# EAGLE library part LT3652EMSEPBF (library PowerIC)
Power Tracking 2A Battery Charger for Solar Power
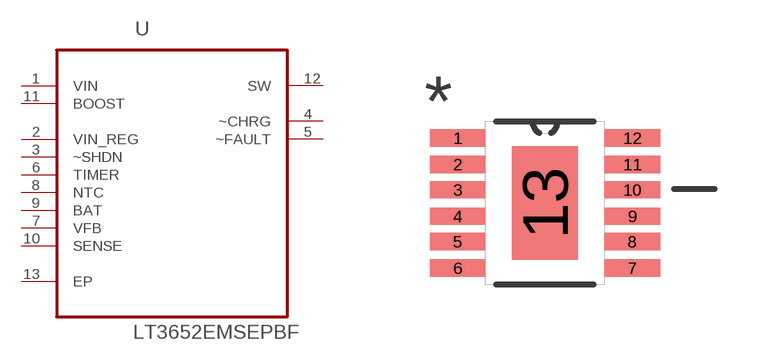
[diagram p1: symbol with the pads of SOP65P490X110-13N; footprint SOP65P490X110-13N]

Designator prefix U

## LT3652EMSEPBF (MPN: LT3652EMSE#PBF; OC_FARNELL: 1839126; OC_NEWARK: 64R8539; PACKAGE: MSOP-12; SUPPLIER: Linear Technology)  [SOP65P490X110-13N]
1  VIN  pwr
2  VIN_REG  in
3  ~SHDN  in
4  ~CHRG  out
5  ~FAULT  out
6  TIMER  in
7  VFB  in
8  NTC  in
9  BAT  pwr
10  SENSE  in
11  BOOST  pwr
12  SW  out
13  EP  pas

## Footprint SOP65P490X110-13N (pad centres in mm)
smd 1.397 x 0.432: 1 -2.184,1.626; 2 -2.184,0.965; 3 -2.184,0.33; 4 -2.184,-0.33; 5 -2.184,-0.965; 6 -2.184,-1.626; 7 2.184,-1.626; 8 2.184,-0.965; 9 2.184,-0.33; 10 2.184,0.33; 11 2.184,0.965; 12 2.184,1.626
smd 1.651 x 2.845: 13 0,0